# Altium footprint library PcbLib1.1.PcbLib: 79 footprints (part 2 of 5)
Each footprint in its own frame and in the unit in brackets; x right, y up, seen from the top. Pads: shape width x height; smd on the part's side, far side on the other; paste and mask are expansions set on the pad; w line width, h text height; cw(c..) or ccw(c..) is an arc to the next point about the centre after c.
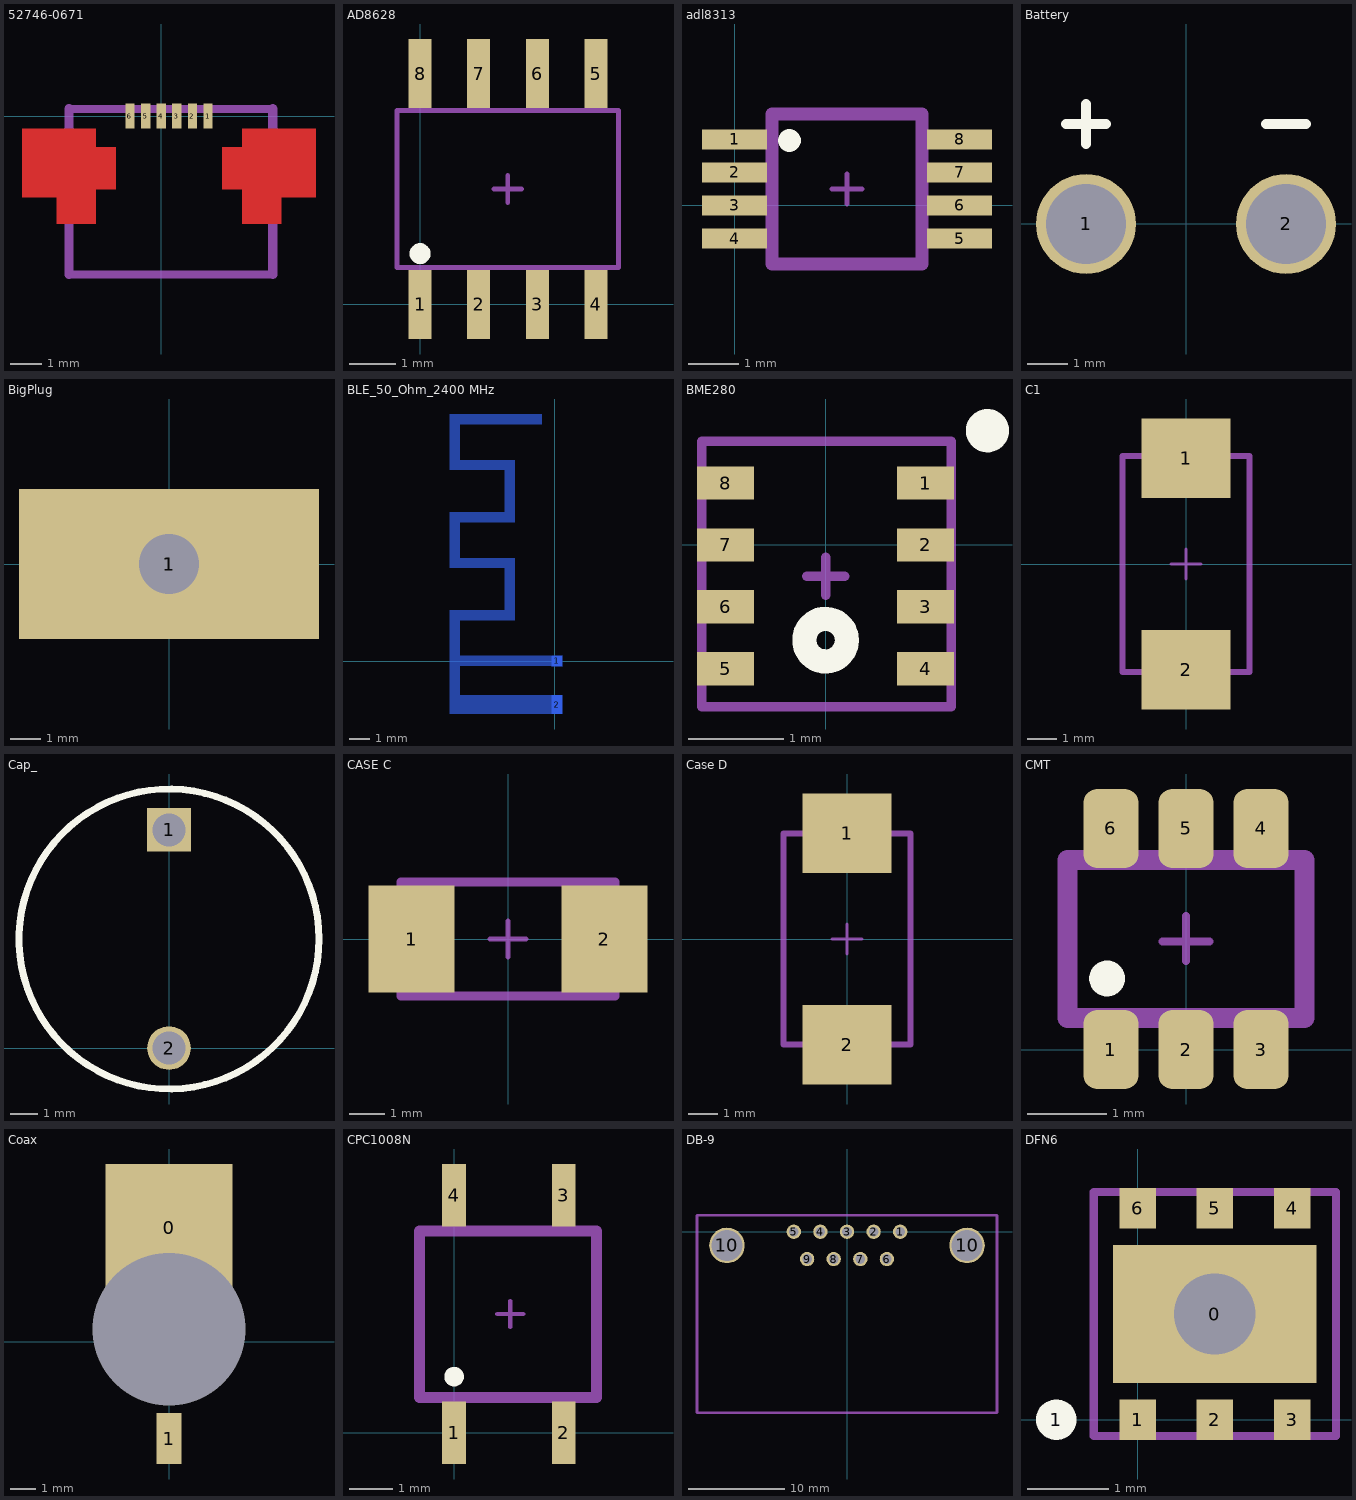
[diagram p1: the footprints below, top view; thin cyan lines are the x and y axes]

## 52746-0671 [mm]
height 2
pads (6):
  rect 0.3x0.8 smd: 1(1.5,0) 2(1,0) 3(0.5,0) 4(0,0) 5(-0.5,0) 6(-1,0)
Top Layer:
  region: -2.1,-3.45 -2.1,-2.34 -1.45,-2.34 -1.45,-1 -2.1,-1 -2.1,-0.4 -4.45,-0.4 -4.45,-2.6 -3.35,-2.6 -3.35,-3.45
  region: 2.6,-3.45 2.6,-2.34 1.95,-2.34 1.95,-1 2.6,-1 2.6,-0.4 4.95,-0.4 4.95,-2.6 3.85,-2.6 3.85,-3.45
Top Paste:
  region: -2.1,-3.45 -2.1,-2.34 -1.45,-2.34 -1.45,-1 -2.1,-1 -2.1,-0.4 -4.45,-0.4 -4.45,-2.6 -3.35,-2.6 -3.35,-3.45
  region: 2.6,-3.45 2.6,-2.34 1.95,-2.34 1.95,-1 2.6,-1 2.6,-0.4 4.95,-0.4 4.95,-2.6 3.85,-2.6 3.85,-3.45
Top Solder:
  region: -2,-3.55 -2,-2.44 -1.35,-2.44 -1.35,-0.9 -2,-0.9 -2,-0.3 -4.55,-0.3 -4.55,-2.7 -3.45,-2.7 -3.45,-3.55
  region: 2.5,-3.55 2.5,-2.44 1.85,-2.44 1.85,-0.9 2.5,-0.9 2.5,-0.3 5.05,-0.3 5.05,-2.7 3.95,-2.7 3.95,-3.55
Mechanical 15:
  lines w0.254: -2.95,-5.07 3.57,-5.07 ; -2.95,0.23 3.57,0.23
  lines w0.3: -2.95,-5.07 -2.95,0.23 ; 3.57,-5.07 3.57,0.23

## AD8628 [mm]
pads (8):
  rect 0.5x1.5 smd: 1(0,0) 2(1.27,0) 3(2.54,0) 4(3.81,0) 5(3.81,5) 6(2.54,5) 7(1.27,5) 8(0,5)
Top Overlay:
  circle w0.254: c0,1.1 r0.1
Mechanical 15:
  lines w0.1: 1.6,2.5 2.2,2.5 ; 1.9,2.2 1.9,2.8 ; -0.5,0.8 -0.5,4.2 4.3,4.2 4.3,0.8 -0.5,0.8

## adl8313 [mil] "LogDet"
height 43.31
pads (8):
  rect 51x16 smd: 1(0,51.97) 2(0,25.98) 3(0,0) 4(0,-25.98) 5(177.17,-25.98) 6(177.17,0) 7(177.17,25.98) 8(177.17,51.97)
Top Overlay:
  circle w10: c43.31,51.18 r3.94
Top Solder:
  rectangle: -29.53,-17.72 29.53,45.28
  rectangle: 147.64,-17.72 206.69,45.28
Mechanical 15:
  lines w3.94: 76.77,12.99 100.39,12.99 ; 88.58,1.18 88.58,24.8
  lines w10: 29.53,-46.06 29.53,72.05 147.64,72.05 147.64,-46.06 29.53,-46.06

## Battery [mm]
height 10
pads (2):
  round 2.5 hole 2: 1(-2.5,0) 2(2.5,0)
Top Overlay:
  lines w0.25: -3,2.5 -2,2.5 ; -2.5,2 -2.5,3 ; 2,2.5 3,2.5

## BigPlug [mm]
pads (2):
  rect 10x5 smd: 1(0,0)
  round 2.4 hole 2: 1(0,0)

## BLE_50_Ohm_2400 MHz [mm]
height 5
pads (2):
  rect 0.5x0.5 smd far side: 1(0.094,0.028)
  rect 0.5x0.9 smd far side: 2(0.096,-2.072)
Bottom Layer:
  rectangle: -4.686,6.678 -1.916,7.178
  rectangle: -5.056,-2.522 -0.148,-1.622
  rectangle: -4.756,-0.222 -0.152,0.278
  rectangle: -5.056,1.978 -1.916,2.478
  rectangle: -4.662,4.478 -1.916,4.978
  rectangle: -4.634,9.178 -1.916,9.678
  rectangle: -4.877,11.378 -0.616,11.878
  rectangle: -5.056,-2.522 -4.556,2.478
  rectangle: -5.056,9.178 -4.556,11.878
  rectangle: -5.056,4.478 -4.556,7.178
  rectangle: -2.416,2.162 -1.916,4.539
  rectangle: -2.416,7.145 -1.916,9.303

## BME280 [mm]
height 1.1
pads (8):
  rect 0.6x0.35 smd: 1(1.05,0.65) 2(1.05,0) 3(1.05,-0.65) 4(1.05,-1.3) 5(-1.05,-1.3) 6(-1.05,-0.65) 7(-1.05,0) 8(-1.05,0.65)
Top Overlay:
  circle w0.254: c1.7,1.2 r0.1
  circle w0.254: c0,-1 r0.224
Mechanical 15:
  lines w0.1: -0.2,-0.33 0.2,-0.33 ; 0,-0.53 0,-0.13 ; -1.3,-1.7 -1.3,1.09 1.32,1.09 1.32,-1.7 -1.3,-1.7

## C1 [mm]
pads (2):
  rect 3x2.7 smd: 1(0,3.575) 2(0,-3.575)
Mechanical 15:
  lines w0.1: -0.5,0 0.5,0 ; 0,-0.5 0,0.5
  lines w0.2: -2.15,-3.65 2.15,-3.65 2.15,3.65 -2.15,3.65 -2.15,-3.65

## Cap_ [mm]
height 24
pads (2):
  rect 1.6x1.6 hole 1.2: 1(0,8)
  round 1.6 hole 1.2: 2(0,0)
Top Overlay:
  circle w0.254: c0,4 r5.5

## CASE C [mm]
height 2.8
pads (2):
  rect 2.4x3 smd: 1(-2.7,0) 2(2.7,0)
Mechanical 15:
  lines w0.15: -0.5,0 0.5,0 ; 0,-0.5 0,0.5
  lines w0.254: -3,-1.6 -3,1.6 3,1.6 3,-1.6 -3,-1.6

## Case D [mm]
height 3
pads (2):
  rect 3x2.7 smd: 1(0,3.575) 2(0,-3.575)
Mechanical 15:
  lines w0.1: -0.5,0 0.5,0 ; 0,-0.5 0,0.5
  lines w0.2: -2.15,-3.575 -2.15,3.575 2.15,3.575 2.15,-3.575 -2.15,-3.575

## CMT [mm]
pads (6):
  rrect50% 0.7x1 smd: 1(-0.95,0) 2(0,0) 3(0.95,0) 4(0.95,2.8) 5(0,2.8) 6(-0.95,2.8)
Top Overlay:
  circle w0.254: c-1,0.9 r0.1
Top Solder:
  rectangle: -0.6,-0.5 0.85,0.45
  rectangle: -0.7,2.35 0.7,3.25
Mechanical 15:
  lines w0.1: -0.3,1.37 0.3,1.37 ; 0,1.12 0,1.69
  lines w0.254: -1.5,0.4 -1.5,2.4 1.5,2.4 1.5,0.4 -0.5,0.4 -1.5,0.4
  text "CMT" at -3.23,1.31 h0.5

## Coax [mm]
pads (3):
  rect 5x5 smd: 0(0,4.5)
  rect 1x2 smd: 1(0,-3.8)
  rect 0x0 hole 6 unplated copper offset 0,4.5: ""(0,0.5)

## CPC1008N [mm]
pads (4):
  rect 0.55x1.45 smd: 1(0,0) 2(2.54,0) 3(2.54,5.5) 4(0,5.5)
Top Overlay:
  circle w0.254: c0,1.3 r0.1
Mechanical 15:
  lines w0.1: 1,2.75 1.6,2.75 ; 1.3,2.45 1.3,3.05
  lines w0.254: -0.8,0.82 3.3,0.82 3.3,4.67 -0.8,4.67 -0.8,0.82

## DB-9 [mm]
height 12.5
pads (11):
  round 1.5 hole 1: 1(5.54,0) 2(2.77,0) 3(0,0) 4(-2.77,0) 5(-5.54,0) 6(4.155,-2.84) 7(1.385,-2.84) 8(-1.385,-2.84) 9(-4.155,-2.84)
  round 3.7 hole 3.2: 10(-12.5,-1.42) 10(12.5,-1.42)
Mechanical 15:
  lines w0.254: -15.62,-18.83 15.62,-18.83 ; -15.62,1.7 15.62,1.7
  lines w0.3: -15.62,-18.83 -15.62,1.7 ; 15.62,-18.83 15.62,1.7

## DFN6 [mm]
height 1
pads (8):
  rect 2.5x1.7 hole 1: 0(0.95,1.3)
  round 0.5 on Top Overlay: 1(-1,0)
  rect 0.45x0.5 smd: 1(0,0) 2(0.95,0) 3(1.9,0) 4(1.9,2.6) 5(0.95,2.6) 6(0,2.6)
Mechanical 15:
  lines w0.1: -0.54,-0.2 2.44,-0.2 2.44,2.8 -0.54,2.8 -0.54,-0.2